# Altium schematic symbol library Leon.SchLib: 22 symbols
Pins are listed as number, name and electrical type; pins without a type are passive.

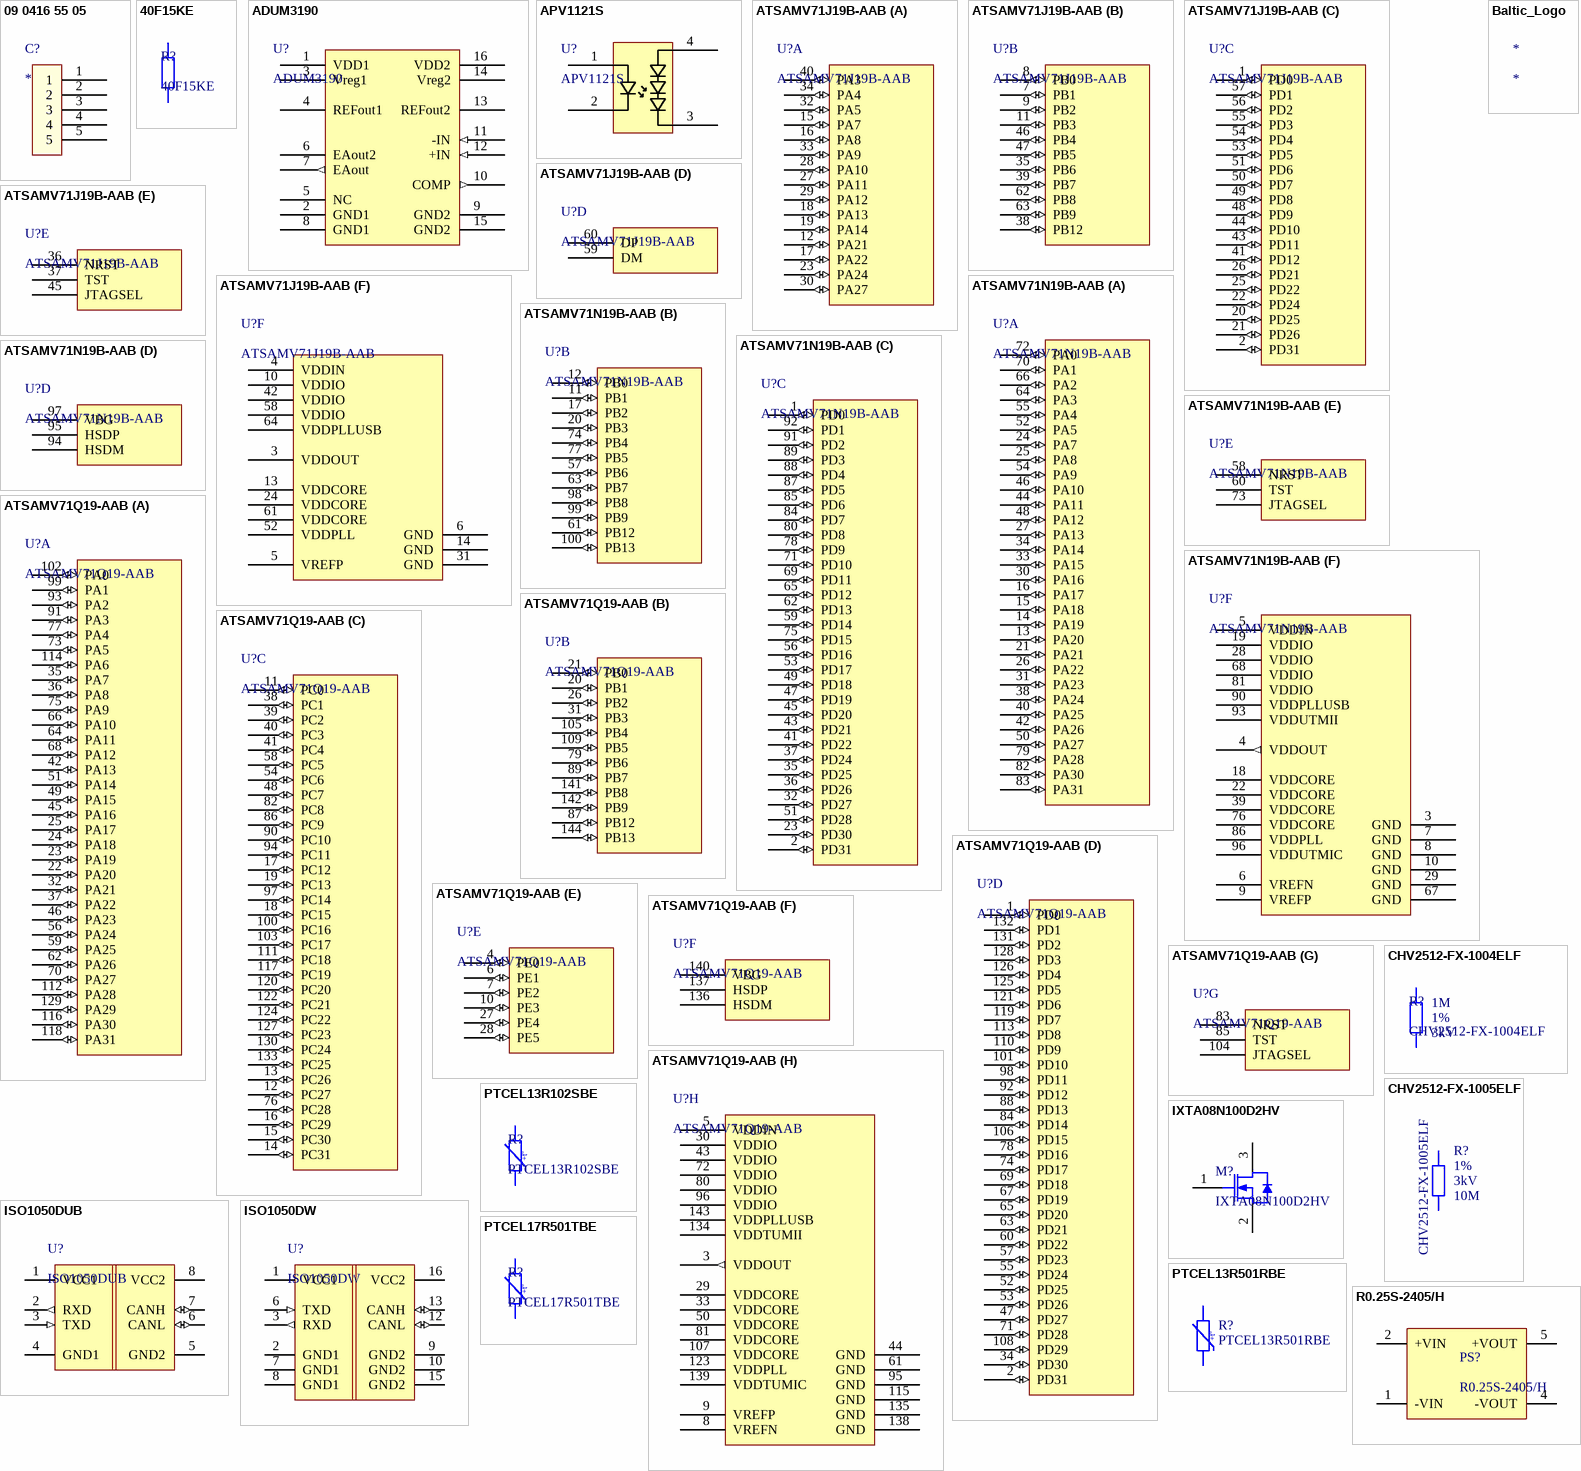
[diagram p0: symbols 09 0416 55 05 to R0.25S-2405/H]

## 09 0416 55 05
designator C?
Binder 5 Pin Female SnapIn 90°
footprint BINDER_09_0416_30_05 (M9 IP67 Flanschdose, gewinkelt, Polzahl: 5, schirmbar, tauchlöten, IP67, von vorn verschraubbar)
pins: 1, 2, 3, 4, 5

## 40F15KE
designator R?
Wirewound Resistors 10watt 15K 1% Axial; Manufacturer: Ohmite; Power Rating: 10W; Temperature Coefficient: 20ppm/°C; Supplier 1: Mouser; Manufacturer Part Number: 40F15KE; RoHS: Yes; Category: Through-Hole Resistors; Stock 1: 619; Pricing 1: 1=2,89000, 10=2,61000, 50=2,14000, 100=2,06000, 1000=1,35000, 10000=1,32000 (USD); Mount: Through Hole; Case/Package: Axial; Tolerance: 1%; Resistance: 15k; Packaging: Bulk; Package Quantity: 25; Resistor Type: Wirewound; Number of Terminations: 2; Termination: Axial; Max Power Dissipation: 10W; Series: Ohmicone® 40; Length: 1.902inch; RoHS Compliant: Yes; Supplier Part Number 1: 588-40F15KE; ComponentLink4Description: Datasheet; ComponentLink4URL: https://www.ohmite.com/assets/docs/res_40.pdf; ComponentLink5Description: Product Page; ComponentLink5URL: https://www.ohmite.com/40-series
footprint OHMITE_40_SERIES (Ohmicone ® Silicone-Ceramic Conformal  Axial Terminal Wirewound  1% and 5% Tolerance Standard)
pins: 1, 2

## ADUM3190
designator U?
ANALOG DEVICES - ADUM3190ARQZ - Isolation Amplifier, High Stability Error, 2 Amplifier, 2.5 kV, 3V to 20V, QSOP, 16 Pins; Bandwidth: 10MHz; Max Input Voltage: 1.5V; Common Mode Rejection Ratio: 72dB; -3db Bandwidth: 400kHz; Input Offset Voltage (Vos): 2.5V; Number of Channels: 1; Isolation Voltage: 2.5kV; Input Bias Current: 10nA; Output Current per Channel: 2mA; Max Power Dissipation: 1.64W; Accuracy: 1%; Min Input Voltage: 400mV; Max Output Voltage: 5V; Nominal Supply Current: 2.9mA; Number of Amplifiers: 2; Supplier 1: Digi-Key; Manufacturer: Analog Devices; Manufacturer Part Number: ADUM3190ARQZ; RoHS: Yes; Category: Integrated Circuits (ICs); Stock 1: 9197; Pricing 1: 1=2,92000, 10=2,62400, 25=2,48040, 100=2,14970, 250=2,03944, 500=1,82998, 1000=1,71600 (USD); Mount: Surface Mount; Case/Package: QSOP; Number of Pins: 16; Contact Plating: Tin,Matte; Min Operating Temperature: -40°C; Max Operating Temperature: 85°C; Package Quantity: 98; Packaging: Rail/Tube; Max Supply Voltage: 20V; Min Supply Voltage: 3V; Gain Bandwidth Product: 10MHz; Min Output Voltage: 400mV; Series: iCoupler®; Supply Current: 2.9mA; Amplifier Type: ISOLATION; Power Dissipation: 1.64W; Length: 5mm; Width: 4.01mm; Height: 1.65mm; Radiation Hardening: No; Lead Free: Contains Lead; RoHS Compliant: Yes; REACH SVHC: No SVHC; ComponentLink1URL: https://datasheet.ciiva.com/15065/adum3190-preliminary-01-22-2013-15065104.pdf?src-supplier=Digi-Key; ComponentLink1Description: https://datasheet.ciiva.com/15065/adum3190-preliminary-01-22-2013-15065104.pdf?src-supplier=Digi-Key; ComponentLink2URL: https://datasheet.ciiva.com/22616/1692610-22616320.pdf?src-supplier=Element14; ComponentLink2Description: https://datasheet.ciiva.com/22616/1692610-22616320.pdf?src-supplier=Element14; ComponentLink3URL: https://datasheet.ciiva.com/29892/adum3190-29892631.pdf?src-supplier=Avnet; ComponentLink3Description: https://datasheet.ciiva.com/29892/adum3190-29892631.pdf?src-supplier=Avnet; Supplier Part Number 1: ADUM3190ARQZ-ND
footprint AD_RQ_16
pins: 1 VDD1 (power) "Supply Voltage for Side1 (3.0V to 20V)", 2 GND1 (power) "Ground Reference for Side1", 3 Vreg1 (power) "Internal Supply Voltage for Side 1.", 4 REFout1 (power) "Reference Output voltage for Side1.", 5 NC (power), 6 EAout2 (oc) "Isolated Output Voltage", 7 EAout (out) "Isolated Output Voltage", 8 GND1 (power), 9 GND2 (power), 10 COMP (out), 11 -IN (in), 12 +IN (in), 13 REFout2 (power), 14 Vreg2 (power), 15 GND2 (power), 16 VDD2 (power)

## APV1121S
designator U?
Optocoupler DC-IN 1-CH Linear Photovoltaic DC-OUT 4-Pin SOP T/R; Manufacturer: Panasonic Aromat NAiS; Max Power Dissipation: 75mW; Max Input Current: 50mA; Reverse Breakdown Voltage: 5V; Forward Voltage: 1.5V; Isolation Voltage: 2.5kV; Number of Elements: 1; Max Output Voltage: 8.7V; Output Current per Channel: 14uA; Rise Time: 0.4ms; Fall Time: 0.1ms; RMS Current (Irms): 14mA; Supplier 1: Digi-Key; Manufacturer Part Number: APV1121S; RoHS: Yes; Category: Optocouplers; Stock 1: 1190; Pricing 1: 1=3,15000, 10=2,22600, 100=1,82320, 500=1,53700, 1000=1,50000 (USD); Mount: Surface Mount; Case/Package: SOP; Number of Pins: 4; Min Operating Temperature: -40°C; Max Operating Temperature: 85°C; Packaging: Rail/Tube; Power Dissipation: 75mW; Forward Current: 50mA; Package Quantity: 100; Number of Channels: 1; Load Current: 14uA; Output Voltage: 8.7V; Reverse Voltage (DC): 5V; Output Current: 14uA; Voltage Rating (DC): 2.5kV; Radiation Hardening: No; REACH SVHC: No SVHC; Lead Free: Lead Free; RoHS Compliant: Yes; ComponentLink1URL: https://datasheet.ciiva.com/26327/504875-da-01-en-photov-mosfet-tr-8-7v-14ua-apv1121s-26327388.pdf?src-supplier=Conrad; ComponentLink1Description: https://datasheet.ciiva.com/26327/504875-da-01-en-photov-mosfet-tr-8-7v-14ua-apv1121s-26327388.pdf?src-supplier=Conrad; ComponentLink2URL: https://datasheet.ciiva.com/26363/getdatasheetpartid-187679-26363899.pdf?src-supplier=Verical; ComponentLink2Description: https://datasheet.ciiva.com/26363/getdatasheetpartid-187679-26363899.pdf?src-supplier=Verical; ComponentLink3URL: https://datasheet.ciiva.com/24417/semi-eng-apv-24417419.pdf?src-supplier=Onlinecomponents.com; ComponentLink3Description: https://datasheet.ciiva.com/24417/semi-eng-apv-24417419.pdf?src-supplier=Onlinecomponents.com; Supplier Part Number 1: 255-2656-ND
footprint PANASONIC_SOP4 (Footprint not found)
pins: 1 IN+, 2 IN-, 3 OUT-, 4 OUT+

## ATSAMV71J19B-AAB
designator U?
MCU 32-Bit SAMV71 ARM Cortex-M7F RISC 512KB Flash 1.7V to 3.6V 64-Pin LQFP Tray; Manufacturer: Microchip; Supplier 1: Digi-Key; Manufacturer Part Number: ATSAMV71J19B-AAB; RoHS: No; Category: Microcontrollers; Pricing 1: 1=12,43000, 25=11,39640, 100=10,32000 (USD); RoHS Compliant: No; Supplier Part Number 1: ATSAMV71J19B-AAB-ND
footprint MICROCHIP_64L-LQFP_MCH
footprint MICROCHIP_64L-LQFP_MCH-L
footprint MICROCHIP_64L-LQFP_MCH-M
part A pins: 12 PA21 (io), 15 PA7 (io), 16 PA8 (io), 17 PA22 (io), 18 PA13 (io), 19 PA14 (io), 23 PA24 (io), 27 PA11 (io), 28 PA10 (io), 29 PA12 (io), 30 PA27 (io), 32 PA5 (io), 33 PA9 (io), 34 PA4 (io), 40 PA3 (io)
part B pins: 7 PB1 (io), 8 PB0 (io), 9 PB2 (io), 11 PB3 (io), 35 PB6 (io), 38 PB12 (io), 39 PB7 (io), 46 PB4 (io), 47 PB5 (io), 62 PB8 (io), 63 PB9 (io)
part C pins: 1 PD0 (io), 2 PD31 (io), 20 PD25 (io), 21 PD26 (io), 22 PD24 (io), 25 PD22 (io), 26 PD21 (io), 41 PD12 (io), 43 PD11 (io), 44 PD10 (io), 48 PD9 (io), 49 PD8 (io), 50 PD7 (io), 51 PD6 (io), 53 PD5 (io), 54 PD4 (io), 55 PD3 (io), 56 PD2 (io), 57 PD1 (io)
part D pins: 59 DM, 60 DP
part E pins: 36 NRST, 37 TST, 45 JTAGSEL
part F pins: 3 VDDOUT (power), 4 VDDIN (power), 5 VREFP (power), 6 GND (power), 10 VDDIO (power), 13 VDDCORE (power), 14 GND (power), 24 VDDCORE (power), 31 GND (power), 42 VDDIO (power), 52 VDDPLL (power), 58 VDDIO (power), 61 VDDCORE (power), 64 VDDPLLUSB (power)

## ATSAMV71N19B-AAB
designator U?
MCU 32-bit ARM Cortex M7 RISC 512KB Flash 3.3V Automotive 100-Pin LQFP Tray; Manufacturer: Microchip; Interface: I2C,SPI,USB,Ethernet,IrDA,MMC,SDIO,SD,UART,USART; Peripherals: Brown-out Detect/Reset,POR,PWM,WDT,DMA; Frequency: 300MHz; Number of I/Os: 75; Oscillator Type: Internal; Supplier 1: Digi-Key; Manufacturer Part Number: ATSAMV71N19B-AAB; RoHS: Yes; Category: Microcontrollers; Pricing 1: 1=12,52000, 25=11,47720, 100=10,41000 (USD); Case/Package: LQFP; Min Operating Temperature: -40°C; Max Operating Temperature: 105°C; Memory Type: FLASH; Packaging: Tray; Core Architecture: ARM; Memory Size: 512KB; RoHS Compliant: Yes; ComponentLink1URL: http://www.microchip.com/mymicrochip/filehandler.aspx?ddocname=en601629&src-supplier=Digi-Key; ComponentLink1Description: http://www.microchip.com/mymicrochip/filehandler.aspx?ddocname=en601629&src-supplier=Digi-Key; Supplier Part Number 1: ATSAMV71N19B-AAB-ND
footprint MICROCHIP_TQFP100_14x14MC_MCH
footprint MICROCHIP_TQFP100_14x14MC_MCH-L
footprint MICROCHIP_TQFP100_14x14MC_MCH-M
part A pins: 13 PA20 (io), 14 PA19 (io), 15 PA18 (io), 16 PA17 (io), 21 PA21 (io), 24 PA7 (io), 25 PA8 (io), 26 PA22 (io), 27 PA13 (io), 30 PA16 (io), 31 PA23 (io), 33 PA15 (io), 34 PA14 (io), 38 PA24 (io), 40 PA25 (io), 42 PA26 (io), 44 PA11 (io), 46 PA10 (io), 48 PA12 (io), 50 PA27 (io), 52 PA5 (io), 54 PA9 (io), 55 PA4 (io), 64 PA3 (io), 66 PA2 (io), 70 PA1 (io), 72 PA0 (io), 79 PA28 (io), 82 PA30 (io), 83 PA31 (io)
part B pins: 11 PB1 (io), 12 PB0 (io), 17 PB2 (io), 20 PB3 (io), 57 PB6 (io), 61 PB12 (io), 63 PB7 (io), 74 PB4 (io), 77 PB5 (io), 98 PB8 (io), 99 PB9 (io), 100 PB13 (io)
part C pins: 1 PD0 (io), 2 PD31 (io), 23 PD30 (io), 32 PD27 (io), 35 PD25 (io), 36 PD26 (io), 37 PD24 (io), 41 PD22 (io), 43 PD21 (io), 45 PD20 (io), 47 PD19 (io), 49 PD18 (io), 51 PD28 (io), 53 PD17 (io), 56 PD16 (io), 59 PD14 (io), 62 PD13 (io), 65 PD12 (io), 69 PD11 (io), 71 PD10 (io), 75 PD15 (io), 78 PD9 (io), 80 PD8 (io), 84 PD7 (io), 85 PD6 (io), 87 PD5 (io), 88 PD4 (io), 89 PD3 (io), 91 PD2 (io), 92 PD1 (io)
part D pins: 94 HSDM, 95 HSDP, 97 VBG
part E pins: 58 NRST, 60 TST, 73 JTAGSEL
part F pins: 3 GND, 4 VDDOUT (out), 5 VDDIN (power), 6 VREFN (power), 7 GND, 8 GND, 9 VREFP (power), 10 GND, 18 VDDCORE (power), 19 VDDIO (power), 22 VDDCORE (power), 28 VDDIO (power), 29 GND, 39 VDDCORE (power), 67 GND, 68 VDDIO (power), 76 VDDCORE (power), 81 VDDIO (power), 86 VDDPLL (power), 90 VDDPLLUSB (power), 93 VDDUTMII (power), 96 VDDUTMIC (power)

## ATSAMV71Q19-AAB
designator U?
MCU 32-bit ARM Cortex M7 RISC 512KB Flash 3.3V Automotive 144-Pin LQFP Tray; Manufacturer: Microchip; Manufacturer Part Number: ATSAMV71Q19B-AAB; Supplier 1: Digi-Key; RoHS: Yes; Category: Microcontrollers; Pricing 1: 120=12,06350 (USD); RoHS Compliant: Yes; Supplier Part Number 1: ATSAMV71Q19B-AAB-ND
footprint MICROCHIP_LQFP144_20x20MC_MCH
footprint MICROCHIP_LQFP144_20x20MC_MCH-L
footprint MICROCHIP_LQFP144_20x20MC_MCH-M
part A pins: 22 PA20 (io), 23 PA19 (io), 24 PA18 (io), 25 PA17 (io), 32 PA21 (io), 35 PA7 (io), 36 PA8 (io), 37 PA22 (io), 42 PA13 (io), 45 PA16 (io), 46 PA23 (io), 49 PA15 (io), 51 PA14 (io), 56 PA24 (io), 59 PA25 (io), 62 PA26 (io), 64 PA11 (io), 66 PA10 (io), 68 PA12 (io), 70 PA27 (io), 73 PA5 (io), 75 PA9 (io), 77 PA4 (io), 91 PA3 (io), 93 PA2 (io), 99 PA1 (io), 102 PA0 (io), 112 PA28 (io), 114 PA6 (io), 116 PA30 (io), 118 PA31 (io), 129 PA29 (io)
part B pins: 20 PB1 (io), 21 PB0 (io), 26 PB2 (io), 31 PB3 (io), 79 PB6 (io), 87 PB12 (io), 89 PB7 (io), 105 PB4 (io), 109 PB5 (io), 141 PB8 (io), 142 PB9 (io), 144 PB13 (io)
part C pins: 11 PC0 (io), 12 PC27 (io), 13 PC26 (io), 14 PC31 (io), 15 PC30 (io), 16 PC29 (io), 17 PC12 (io), 18 PC15 (io), 19 PC13 (io), 38 PC1 (io), 39 PC2 (io), 40 PC3 (io), 41 PC4 (io), 48 PC7 (io), 54 PC6 (io), 58 PC5 (io), 76 PC28 (io), 82 PC8 (io), 86 PC9 (io), 90 PC10 (io), 94 PC11 (io), 97 PC14 (io), 100 PC16 (io), 103 PC17 (io), 111 PC18 (io), 117 PC19 (io), 120 PC20 (io), 122 PC21 (io), 124 PC22 (io), 127 PC23 (io), 130 PC24 (io), 133 PC25 (io)
part D pins: 1 PD0 (io), 2 PD31 (io), 34 PD30 (io), 47 PD27 (io), 52 PD25 (io), 53 PD26 (io), 55 PD24 (io), 57 PD23 (io), 60 PD22 (io), 63 PD21 (io), 65 PD20 (io), 67 PD19 (io), 69 PD18 (io), 71 PD28 (io), 74 PD17 (io), 78 PD16 (io), 84 PD14 (io), 88 PD13 (io), 92 PD12 (io), 98 PD11 (io), 101 PD10 (io), 106 PD15 (io), 108 PD29 (io), 110 PD9 (io), 113 PD8 (io), 119 PD7 (io), 121 PD6 (io), 125 PD5 (io), 126 PD4 (io), 128 PD3 (io), 131 PD2 (io), 132 PD1 (io)
part E pins: 4 PE0 (io), 6 PE1 (io), 7 PE2 (io), 10 PE3 (io), 27 PE4 (io), 28 PE5 (io)
part F pins: 136 HSDM, 137 HSDP, 140 VBG
part G pins: 83 NRST, 85 TST, 104 JTAGSEL
part H pins: 3 VDDOUT (out), 5 VDDIN (power), 8 VREFN (power), 9 VREFP (power), 29 VDDCORE (power), 30 VDDIO (power), 33 VDDCORE (power), 43 VDDIO (power), 44 GND, 50 VDDCORE (power), 61 GND, 72 VDDIO (power), 80 VDDIO (power), 81 VDDCORE (power), 95 GND, 96 VDDIO (power), 107 VDDCORE (power), 115 GND, 123 VDDPLL (power), 134 VDDTUMII (power), 135 GND, 138 GND, 139 VDDTUMIC (power), 143 VDDPLLUSB (power)

## Baltic_Logo
designator *  (graphical)
footprint LOGO_BALTIC_5mm
footprint LOGO_BALTIC_10mm
footprint LOGO_BALTIC_20mm

## CHV2512-FX-1004ELF
designator R?  Working Voltage: 3kV  Tolerance: 1%  Resistance: 1M
Res Thick Film 2512 1M Ohm 1% 1W ±100ppm/°C Molded SMD Paper T/R; Manufacturer: Bourns JW Miller; Voltage Rating: 4kV; Supplier 1: Digi-Key; Manufacturer Part Number: CHV2512-FX-1004ELF; RoHS: Yes; Category: Chip SMD Resistors; Stock 1: 59146; Pricing 1: 1=0,69000, 10=0,50800, 100=0,29600, 1000=0,16600 (USD); Mount: Surface Mount; Case/Package: 2512; Case Code (Metric): 6432; Case Code (Imperial): 2512; Min Operating Temperature: -55°C; Max Operating Temperature: 155°C; Power Rating: 1W; Packaging: Cut Tape; Resistor Type: Thick Film; Number of Terminations: 2; Termination: SMD/SMT; Max Power Dissipation: 1W; Temperature Coefficient: 100ppm/°C; Voltage Rating (DC): 4kV; Length: 0.126inch; Width: 0.252inch; Height: 0.03inch; Depth: 3.2mm; REACH SVHC: No SVHC; RoHS Compliant: Yes; ComponentLink1URL: http://www.farnell.com/datasheets/2059762.pdf?src-supplier=Farnell; ComponentLink1Description: http://www.farnell.com/datasheets/2059762.pdf?src-supplier=Farnell; ComponentLink2URL: http://uk.rs-online.com/webdocs/13ff/0900766b813ff010.pdf?src-supplier=RSComponents; ComponentLink2Description: http://uk.rs-online.com/webdocs/13ff/0900766b813ff010.pdf?src-supplier=RSComponents; ComponentLink3URL: http://www.bourns.com/docs/Product-Datasheets/CHV.pdf?src-supplier=Digi-Key; ComponentLink3Description: http://www.bourns.com/docs/Product-Datasheets/CHV.pdf?src-supplier=Digi-Key; ComponentLink4URL: https://www.bourns.com/docs/Product-Datasheets/CHV.pdf?src-supplier=Digi-Key; ComponentLink4Description: https://www.bourns.com/docs/Product-Datasheets/CHV.pdf?src-supplier=Digi-Key; ComponentLink5URL: http://www.farnell.com/datasheets/2059762.pdf?src-supplier=Allied+Electronics; ComponentLink5Description: http://www.farnell.com/datasheets/2059762.pdf?src-supplier=Allied+Electronics; ComponentLink6URL: http://www.farnell.com/datasheets/2059762.pdf?src-supplier=Element14; ComponentLink6Description: http://www.farnell.com/datasheets/2059762.pdf?src-supplier=Element14; ComponentLink7URL: http://www.farnell.com/datasheets/2059762.pdf?src-supplier=Avnet+Europe; ComponentLink7Description: http://www.farnell.com/datasheets/2059762.pdf?src-supplier=Avnet+Europe; ComponentLink8URL: http://www.farnell.com/datasheets/2059762.pdf?src-supplier=Avnet; ComponentLink8Description: http://www.farnell.com/datasheets/2059762.pdf?src-supplier=Avnet; ComponentLink9URL: http://www.farnell.com/datasheets/2059762.pdf?src-supplier=Verical; ComponentLink9Description: http://www.farnell.com/datasheets/2059762.pdf?src-supplier=Verical; ComponentLink10URL: http://www.farnell.com/datasheets/2059762.pdf?src-supplier=Newark; ComponentLink10Description: http://www.farnell.com/datasheets/2059762.pdf?src-supplier=Newark; Supplier Part Number 1: CHV2512-FX-1004ELFCT-ND
footprint BOURNS_CHV2512
pins: 1, 2

## CHV2512-FX-1005ELF
designator R?  Tolerance: 1%  Working Voltage: 3kV  Resistance: 10M
Res Thick Film 2512 10M Ohm 1% 1W ±100ppm/°C Molded SMD Paper T/R; Manufacturer: Bourns JW Miller; Voltage Rating: 4kV; Supplier 1: Digi-Key; Manufacturer Part Number: CHV2512-FX-1005ELF; RoHS: Yes; Category: Chip SMD Resistors; Stock 1: 27289; Pricing 1: 1=0,69000, 10=0,50800, 100=0,29600, 1000=0,16600 (USD); Mount: Surface Mount; Case/Package: 2512; Case Code (Metric): 6432; Case Code (Imperial): 2512; Min Operating Temperature: -55°C; Max Operating Temperature: 155°C; Power Rating: 1W; Packaging: Cut Tape; Resistor Type: Thick Film; Number of Terminations: 2; Termination: SMD/SMT; Max Power Dissipation: 1W; Temperature Coefficient: 100ppm/°C; Voltage Rating (DC): 4kV; Length: 0.126inch; Width: 0.252inch; Height: 0.03inch; Depth: 3.2mm; REACH SVHC: No SVHC; RoHS Compliant: Yes; ComponentLink1URL: http://www.farnell.com/datasheets/2059762.pdf?src-supplier=Farnell; ComponentLink1Description: http://www.farnell.com/datasheets/2059762.pdf?src-supplier=Farnell; ComponentLink2URL: http://www.alliedelec.com/images/products/datasheets/bm/BOURNS/70479526.pdf?src-supplier=Allied+Electronics; ComponentLink2Description: http://www.alliedelec.com/images/products/datasheets/bm/BOURNS/70479526.pdf?src-supplier=Allied+Electronics; ComponentLink3URL: http://uk.rs-online.com/webdocs/13ff/0900766b813ff012.pdf?src-supplier=RSComponents; ComponentLink3Description: http://uk.rs-online.com/webdocs/13ff/0900766b813ff012.pdf?src-supplier=RSComponents; ComponentLink4URL: http://www.farnell.com/datasheets/1889918.pdf?src-supplier=Newark; ComponentLink4Description: http://www.farnell.com/datasheets/1889918.pdf?src-supplier=Newark; ComponentLink5URL: http://www.farnell.com/datasheets/2059762.pdf?src-supplier=Element14; ComponentLink5Description: http://www.farnell.com/datasheets/2059762.pdf?src-supplier=Element14; ComponentLink6URL: http://www.bourns.com/docs/Product-Datasheets/CHV.pdf?src-supplier=Digi-Key; ComponentLink6Description: http://www.bourns.com/docs/Product-Datasheets/CHV.pdf?src-supplier=Digi-Key; ComponentLink7URL: http://www.bourns.com/data/global/pdfs/CHV.pdf?src-supplier=Avnet; ComponentLink7Description: http://www.bourns.com/data/global/pdfs/CHV.pdf?src-supplier=Avnet; Supplier Part Number 1: CHV2512-FX-1005ELFCT-ND
footprint BOURNS_CHV2512
pins: 1, 2

## ISO1050DUB
designator U?
Isolated CAN Transceiver, -55 to 105 degC, 8-pin SOP (DUB), Green (RoHS & no Sb/Br); Manufacturer: Texas Instruments; Rating: Catalog; Drivers Per Package: 1; Isolated: Yes; ComponentLink2URL: http://www.ti.com/litv/pdf/mpds247b; Eco-Plan: Green (RoHS & no Sb/Br); PackageReference: DUB0008A; PackageVersion: revC, May-2006; ComponentLink1Description: Datasheet; PartNumber: ISO1050DUB; SubFamily: CAN; DatasheetVersion: SLLS983E; PackageDescription: 8-Pin Small Outline Package 2.54 mm Pitch; ComponentLink2Description: Package Specification; ComponentLink1URL: http://www.ti.com/general/docs/lit/getliterature.tsp?genericPartNumber=ISO1050&fileType=pdf; Mounting Technology: Surface Mount
footprint TI_DUB0008A (SOP, 8-Leads, Body 6.7x9.6mm, Pitch 2.54mm, IPC Low Density)
pins: 1 VCC1 (power), 2 RXD (out), 3 TXD (in), 4 GND1 (power), 5 GND2 (power), 6 CANL (io), 7 CANH (io), 8 VCC2 (power)

## ISO1050DW
designator U?
Isolated CAN Transceiver, -55 to 105 degC, 16-pin SOIC (DW), Green (RoHS & no Sb/Br); Manufacturer: Texas Instruments; Drivers Per Package: 1; Rating: Catalog; Isolated: Yes; DatasheetVersion: SLLS983E; PackageDescription: 16-Pin Small Outline Integrated Circuit, 10.3 x 7.5 mm, Pitch 1.27 mm Pitch; Mounting Technology: Surface Mount; Eco-Plan: Green (RoHS & no Sb/Br); ComponentLink1URL: http://www.ti.com/general/docs/lit/getliterature.tsp?genericPartNumber=ISO1050&fileType=pdf; ComponentLink2URL: http://www.ti.com/litv/pdf/msoi003g; PartNumber: ISO1050DW; SubFamily: CAN; ComponentLink2Description: Package Specification; ComponentLink1Description: Datasheet; Code_JEDEC: MS-013-AA; PackageReference: DW00016B; PackageVersion: revG, Jan-2011
footprint TI_DW0016B (SOIC, 16-Leads, Body 10.5x7.6mm, Pitch 1.27mm, IPC Low Density)
pins: 1 VCC1 (power), 2 GND1 (power), 3 RXD (out), 6 TXD (in), 7 GND1 (power), 8 GND1 (power), 9 GND2 (power), 10 GND2 (power), 12 CANL (io), 13 CANH (io), 15 GND2 (power), 16 VCC2 (power)

## IXTA08N100D2HV
designator M?
D2 Series - 100V - 1700V N-Channel Depletion Mode Power MOSFETs, TO-263HV, RoHS; Manufacturer: Littelfuse; Supplier 1: Arrow Electronics; Manufacturer Part Number: IXTA08N100D2HV; RoHS: Yes; Category: MOSFETs; Stock 1: 30; Pricing 1: 1=1,74230, 300=2,14500, 500=1,90100, 1000=1,67700, 2000=1,66000, 2500=1,64400, 3000=1,62700, 4000=1,61100, 5000=1,59500, 10000=1,57900, 20000=1,56300 (USD); Supplier Part Number 1: IXTA08N100D2HV
footprint IXYS_TO-263HV (D2-PAK, 3-Pads, Body 7,80x8,46mm (max), IPC Medium Density)
pins: 1 GATE, 2 SOURCE, 3 DRAIN

## PTCEL13R102SBE
designator R?
PTCEL Series 850 V 1 kOhm ±30 % Radial Inrush Current Limiter PTC Thermistor; Manufacturer: Vishay; Supplier 1: Mouser; Manufacturer Part Number: PTCEL13R102SBE; RoHS: No; Stock 1: 2116; Pricing 1: 1=3,45000, 10=2,68000, 50=1,98000, 100=1,88000, 1000=1,47000, 10000=1,45000 (USD); Supplier Part Number 1: 594-PTCEL13R102SBE
footprint PTCEL13
footprint PTCEL13_H (Vishay PTCEL13 package horizontal)
pins: 1, 2
text: +t°

## PTCEL13R501RBE
designator R?
PTCEL Series 800 V 500 Ohm ±30 % Radial Inrush Current Limiter PTC Thermistor; Manufacturer: Vishay; Supplier 1: Digi-Key; Manufacturer Part Number: PTCEL13R501RBE; RoHS: No; Stock 1: 1570; Pricing 1: 1=3,85000, 5=3,57200, 10=2,96700, 25=2,47240, 50=2,19780, 100=2,08790, 500=1,75824, 1000=1,64835, 5000=1,53846 (USD); Packaging: Bulk; ComponentLink1URL: http://www.vishay.com/docs/29165/ptcel.pdf?src-supplier=Digi-Key; ComponentLink1Description: http://www.vishay.com/docs/29165/ptcel.pdf?src-supplier=Digi-Key; Supplier Part Number 1: BC3320-ND; RoHS Compliant: No
footprint PTCEL13_H (Vishay PTCEL13 package horizontal)
footprint PTCEL13
pins: 1, 2
text: +t°

## PTCEL17R501TBE
designator R?
PTCEL Series 1000 V 500 Ohm ±30 % Radial Inrush Current Limiter PTC Thermistor; Manufacturer: Vishay BCcomponents; Tolerance: 30%; Supplier 1: Mouser; Manufacturer Part Number: PTCEL17R501TBE; RoHS: No; Stock 1: 130; Pricing 1: 1=3,37000, 5=3,30000, 10=3,15000, 25=3,00000, 50=2,70000, 100=2,55000, 200=2,46000, 500=2,25000, 1000=2,17000, 10000=2,17000 (USD); RoHS Compliant: No; ComponentLink1URL: http://www.vishay.com/docs/29165/ptcel.pdf?src-supplier=Digi-Key; ComponentLink1Description: http://www.vishay.com/docs/29165/ptcel.pdf?src-supplier=Digi-Key; Supplier Part Number 1: 594-PTCEL17R501TBE
footprint PTCEL17
pins: 1, 2
text: +t°

## R0.25S-2405/H
designator PS?
CONV DC/DC 0.25W 24V IN 5V OUT, 3kV isolation; Manufacturer: Recom; Min Input Voltage: 21.6V; Number of Outputs: 1; Efficiency: 70%; Max Input Voltage: 26.4V; Max Output Current: 50mA; Max Power Dissipation: 250mW; Package: None; Price: None; Value: *; MP: R0.25S-2405/H; Availability: Unavailable; Supplier 1: Mouser; Manufacturer Part Number: R0.25S-2405/H; RoHS: Yes; Category: Voltage Regulators - Switching; Stock 1: 28; Pricing 1: 1=11,53000, 10=11,44000, 50=10,91000, 100=10,91000, 1000=9,50000, 10000=9,50000 (USD); Mount: Surface Mount; Case/Package: SMD/SMT; Weight: 1g; Min Operating Temperature: -40°C; Max Operating Temperature: 100°C; Packaging: Rail/Tube; Isolation Voltage: 3kV; Voltage - Output 1: 5V; Max Output Voltage: 5V; Output Power: 250mW; Package Quantity: 40; Features: SCP; Series: ECONOLINE R0.25S; Nominal Input Voltage: 24V; Current - Output 1: 50mA; Length: 12.75mm; Width: 10.7mm; Height: 7mm; RoHS Compliant: Yes; Lead Free: Lead Free; ComponentLink1URL: https://datasheet.ciiva.com/2176/r0-25s-d-2176433.pdf?src-supplier=Digi-Key; ComponentLink1Description: https://datasheet.ciiva.com/2176/r0-25s-d-2176433.pdf?src-supplier=Digi-Key; Supplier Part Number 1: 919-R0.25S-2405/H
footprint RECOM_R0.25S-2405/H (Footprint not found)
pins: 1 -VIN (power), 2 +VIN (power), 4 -VOUT (power), 5 +VOUT (power)

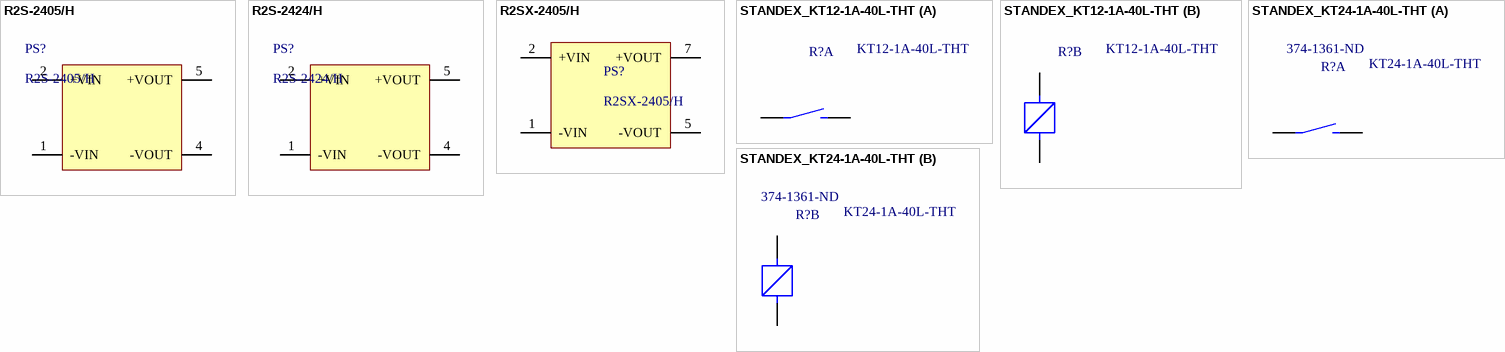
[diagram p1: symbols R2S-2405/H to STANDEX_KT24-1A-40L-THT]

## R2S-2405/H
designator PS?
2W DC/DC-Converter 'ECONOLINE' SMD 3kV unreg; V. In: 24; V. Out: 05; mA. Out: 400; Manufacturer: Recom; Nominal Input Voltage: 24V; Number of Outputs: 1; Min Input Voltage: 21.6V; Efficiency: 85%; Max Input Voltage: 26.4V; Voltage - Output 1: 5V; Max Output Current: 400mA; Supplier 1: Future Electronics; Manufacturer Part Number: R2S-2405/H; RoHS: Yes; Category: Voltage Regulators - Switching; Pricing 1: 39=17,02000, 78=14,04000, 117=13,79000, 156=13,62000 (USD); Mount: Surface Mount; Case/Package: SMD/SMT; Weight: 1.4g; Min Operating Temperature: -40°C; Max Operating Temperature: 100°C; Output Power: 2W; Packaging: Rail/Tube; Package Quantity: 39; Isolation Voltage: 3kV; Max Power Dissipation: 2W; Max Output Voltage: 5V; Features: SCP; Series: ECONOLINE R2S; Length: 12.75mm; Width: 10.7mm; Height: 8.7mm; RoHS Compliant: Yes; Lead Free: Lead Free; ComponentLink1URL: https://datasheet.ciiva.com/2177/r2s-r2d-2177940.pdf?src-supplier=Digi-Key; ComponentLink1Description: Datasheet; Supplier Part Number 1: 3107800
footprint RECOM_R2S
pins: 1 -VIN (power), 2 +VIN (power), 4 -VOUT (power), 5 +VOUT (power)

## R2S-2424/H
designator PS?
2W DC/DC-Converter 'ECONOLINE' SMD 3kV unreg; V. In: 24; V. Out: 24; mA. Out: 83; Manufacturer: Recom; Number of Outputs: 1; Efficiency: 85%; Min Input Voltage: 21.6V; Max Input Voltage: 26.4V; Voltage - Output 1: 24V; Max Output Current: 83mA; Isolation: Isolated; Supplier 1: Digi-Key; Manufacturer Part Number: R2S-2424/H; RoHS: Yes; Category: Voltage Regulators - Switching; Stock 1: 519; Pricing 1: 1=15,71000, 5=15,59400, 10=15,47600, 25=15,23760, 50=14,76140, 100=13,33290, 250=13,09480, 440=12,85673 (USD); Mount: Surface Mount; Case/Package: SMD/SMT; Number of Pins: 5; Weight: 1.4g; Min Operating Temperature: -40°C; Max Operating Temperature: 100°C; Packaging: Rail/Tube; Output Power: 2W; Package Quantity: 39; Isolation Voltage: 3kV; Nominal Input Voltage: 24V; Max Power Dissipation: 2W; Max Output Voltage: 24V; Features: SCP; Series: ECONOLINE R2S; Output Voltage: 24V; Output Current: 83mA; Length: 12.75mm; Width: 10.7mm; Height: 8.7mm; Depth: 10.7mm; RoHS Compliant: Yes; Lead Free: Lead Free; ComponentLink1URL: https://datasheet.ciiva.com/6225/r2s-r2d-6225029.pdf?src-supplier=Digi-Key; ComponentLink1Description: Datasheet; Supplier Part Number 1: 945-1769-5-ND
footprint RECOM_R2S
pins: 1 -VIN (power), 2 +VIN (power), 4 -VOUT (power), 5 +VOUT (power)

## R2SX-2405/H
designator PS?
2 Watt SMD Single Output, 3kV isolation; Manufacturer: Recom; Manufacturer Part Number: R2SX-2405/H-TRAY; Supplier 1: Digi-Key; RoHS: No; Stock 1: 29; Pricing 1: 1=7,11000, 5=7,01000, 10=6,90800, 25=6,70480, 50=6,50160, 100=6,29840, 250=6,09524, 440=5,68891 (USD); Supplier Part Number 1: 945-3423-ND
footprint RECOM_R2SX-2405-Tray
pins: 1 -VIN (power), 2 +VIN (power), 5 -VOUT (power), 7 +VOUT (power)

## STANDEX_KT12-1A-40L-THT
designator R?, comment KT12-1A-40L-THT
Reed Relay, Kt Series, 12 Vdc, 475 Ohm, 1 A, 1 Kv, Spst-No Rohs Compliant: Yes; Manufacturer: Standex-Meder Electronics; Coil Current: 25mA; Throw Configuration: SPST; Coil Power: 303mW; Coil Resistance: 475R; Coil Type: Non-Latching; Coil Voltage (DC): 12V; Contact Current Rating: 1A; Supplier 1: Digi-Key; Manufacturer Part Number: KT12-1A-40L-THT; RoHS: Yes; Category: Uncategorized; Stock 1: 2505; Pricing 1: 1=11,61000, 15=10,88533, 30=9,67567, 45=9,19200, 90=8,70822, 240=7,74063, 450=7,25684, 945=6,77306 (USD); Mount: Through Hole; Min Operating Temperature: -40°C; Max Operating Temperature: 100°C; Package Quantity: 15; Packaging: Rail/Tube; Termination: PC Pin; Relay Type: Reed; REACH SVHC: Unknown; RoHS Compliant: No; ComponentLink1URL: https://standexelectronics.com/de/ressourcen/technische-bibliothek/technische-informationen/datasheet-kt-series-reed-relay/; ComponentLink1Description: Datasheet; Supplier Part Number 1: 374-1359-ND
footprint STANDEX_KT_THT
part A pins: 1 COM, 2 NO
part B pins: 3 L1, 4 L2

## STANDEX_KT24-1A-40L-THT
designator R?, comment KT24-1A-40L-THT  Supplier Part Number 1: 374-1361-ND
Reed Relay, Kt Series, 24 Vdc, 1.8 Kohm, 1 A, 1 Kv, Spst-No Rohs Compliant: Yes; Manufacturer: Standex-Meder Electronics; Coil Current: 13.3mA; Throw Configuration: SPST; Coil Power: 320mW; Coil Resistance: 1.8kR; Coil Type: Non-Latching; Coil Voltage (DC): 24V; Contact Current Rating: 1A; Supplier 1: Digi-Key; Manufacturer Part Number: KT24-1A-40L-THT; RoHS: No; Category: Uncategorized; Pricing 1: 1=11,88000, 15=11,13533, 30=9,89800, 45=9,40311, 90=8,90822, 240=7,91842, 450=7,42351, 945=6,92860 (USD); Mount: Through Hole; Min Operating Temperature: -40°C; Max Operating Temperature: 100°C; Package Quantity: 15; Packaging: Rail/Tube; Termination: PC Pin; Relay Type: Reed; REACH SVHC: Unknown; RoHS Compliant: No; ComponentLink1URL: https://standexelectronics.com/de/ressourcen/technische-bibliothek/technische-informationen/datasheet-kt-series-reed-relay/; ComponentLink1Description: Datasheet
footprint STANDEX_KT_THT
part A pins: 1 COM, 2 NO
part B pins: 3 L1, 4 L2